# Altium footprint library TSOP.PcbLib: 15 footprints
Each footprint in its own frame and in the unit in brackets; x right, y up, seen from the top. Pads: shape width x height; smd on the part's side, far side on the other; paste and mask are expansions set on the pad; w line width, h text height; cw(c..) or ccw(c..) is an arc to the next point about the centre after c.
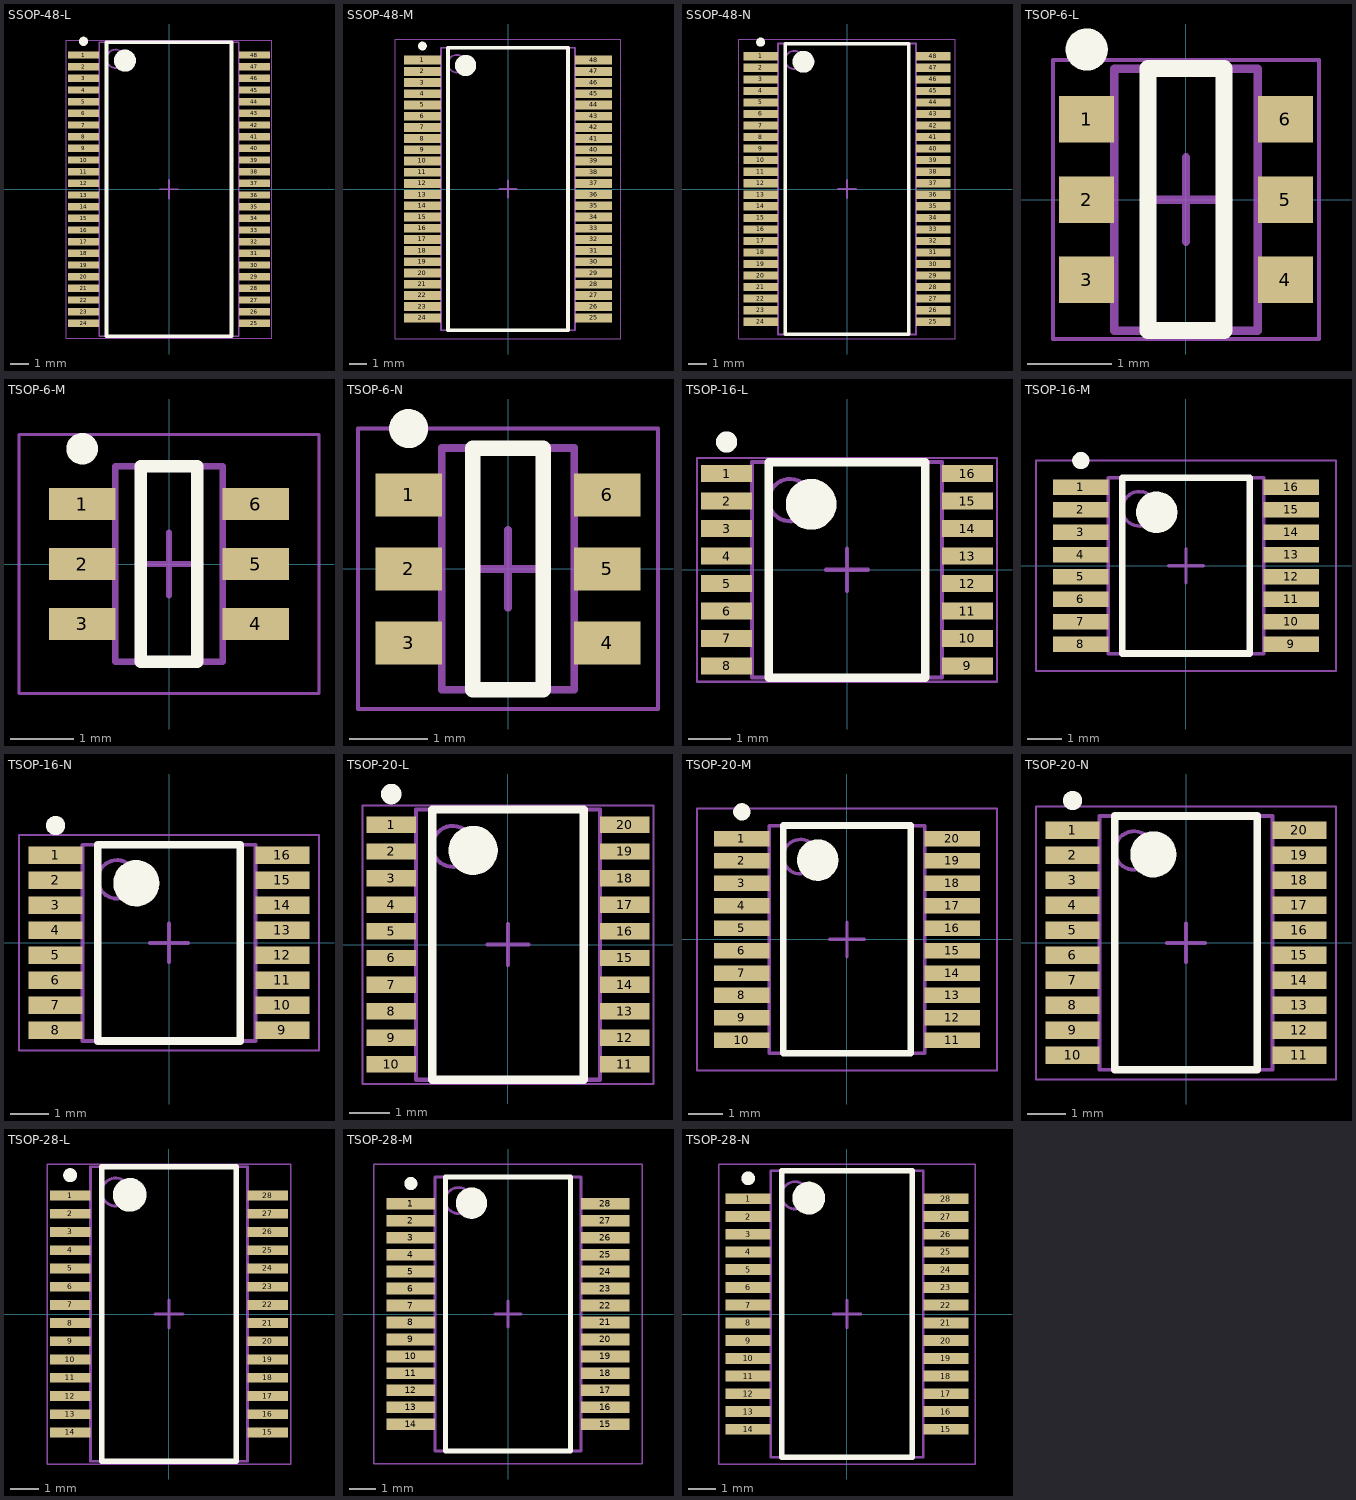
[diagram p0: the footprints below, top view; thin cyan lines are the x and y axes]

## SSOP-48-L [mm] "SOP, 48-Leads, Body 15,88x7,49mm, Pitch 0,64mm, IPC High Density"
height 2.79
pads (48):
  rect 1.7x0.4 smd: 1(-4.65,7.302) 2(-4.65,6.667) 3(-4.65,6.032) 4(-4.65,5.397) 5(-4.65,4.763) 6(-4.65,4.127) 7(-4.65,3.492) 8(-4.65,2.857) 9(-4.65,2.222) 10(-4.65,1.587) 11(-4.65,0.953) 12(-4.65,0.318) 13(-4.65,-0.318) 14(-4.65,-0.953) 15(-4.65,-1.587) 16(-4.65,-2.222) 17(-4.65,-2.857) 18(-4.65,-3.492) 19(-4.65,-4.127) 20(-4.65,-4.763) 21(-4.65,-5.397) 22(-4.65,-6.032) 23(-4.65,-6.667) 24(-4.65,-7.302) 25(4.65,-7.302) 26(4.65,-6.667) 27(4.65,-6.032) 28(4.65,-5.397) 29(4.65,-4.763) 30(4.65,-4.127) 31(4.65,-3.492) 32(4.65,-2.857) 33(4.65,-2.222) 34(4.65,-1.587) 35(4.65,-0.953) 36(4.65,-0.318) 37(4.65,0.318) 38(4.65,0.953) 39(4.65,1.587) 40(4.65,2.222) 41(4.65,2.857) 42(4.65,3.492) 43(4.65,4.127) 44(4.65,4.763) 45(4.65,5.397) 46(4.65,6.032) 47(4.65,6.667) 48(4.65,7.302)
Top Overlay:
  circle w0.25: c-4.65,8.053 r0.125
  circle w0.6: c-2.4,7 r0.3
  lines w0.2: -3.4,-8 -3.4,8 3.4,8 3.4,-8 -3.4,-8
Mechanical 13:
  circle w0.1: c-2.9,7.1 r0.5
  lines w0.1: -3.8,-8 -3.8,8 3.8,8 3.8,-8 -3.8,-8
Mechanical 15:
  lines w0.05: -5.6,-8.1 -5.6,8.1 5.6,8.1 5.6,-8.1 -5.6,-8.1
  lines w0.1: -0.5,0 0.5,0 ; 0,-0.5 0,0.5
3D body "SSOP-48-L.step": height 2.79, standoff 0, extent -5.175,-8 5.175,8

## SSOP-48-M [mm] "SOP, 48-Leads, Body 15,88x7,49mm, Pitch 0,64mm, IPC Low Density"
height 2.79
pads (48):
  rect 2.1x0.5 smd: 1(-4.85,7.302) 2(-4.85,6.667) 3(-4.85,6.032) 4(-4.85,5.397) 5(-4.85,4.763) 6(-4.85,4.127) 7(-4.85,3.492) 8(-4.85,2.857) 9(-4.85,2.222) 10(-4.85,1.587) 11(-4.85,0.953) 12(-4.85,0.318) 13(-4.85,-0.318) 14(-4.85,-0.953) 15(-4.85,-1.587) 16(-4.85,-2.222) 17(-4.85,-2.857) 18(-4.85,-3.492) 19(-4.85,-4.127) 20(-4.85,-4.763) 21(-4.85,-5.397) 22(-4.85,-6.032) 23(-4.85,-6.667) 24(-4.85,-7.302) 25(4.85,-7.302) 26(4.85,-6.667) 27(4.85,-6.032) 28(4.85,-5.397) 29(4.85,-4.763) 30(4.85,-4.127) 31(4.85,-3.492) 32(4.85,-2.857) 33(4.85,-2.222) 34(4.85,-1.587) 35(4.85,-0.953) 36(4.85,-0.318) 37(4.85,0.318) 38(4.85,0.953) 39(4.85,1.587) 40(4.85,2.222) 41(4.85,2.857) 42(4.85,3.492) 43(4.85,4.127) 44(4.85,4.763) 45(4.85,5.397) 46(4.85,6.032) 47(4.85,6.667) 48(4.85,7.302)
Top Overlay:
  circle w0.6: c-2.4,7 r0.3
  circle w0.25: c-4.85,8.103 r0.125
  lines w0.2: -3.4,-8 3.4,-8 3.4,8 -3.4,8 -3.4,-8
Mechanical 13:
  circle w0.1: c-2.9,7.1 r0.5
  lines w0.1: -3.8,-8 3.8,-8 3.8,8 -3.8,8 -3.8,-8
Mechanical 15:
  lines w0.05: -6.4,-8.5 6.4,-8.5 6.4,8.5 -6.4,8.5 -6.4,-8.5
  lines w0.1: -0.5,0 0.5,0 ; 0,-0.5 0,0.5
3D body "SSOP-48-M.step": height 2.79, standoff 0, extent -5.175,-8 5.175,8

## SSOP-48-N [mm] "SOP, 48-Leads, Body 15,88x7,49mm, Pitch 0,64mm, IPC Medium Density"
height 2.79
pads (48):
  rect 1.9x0.45 smd: 1(-4.75,7.302) 2(-4.75,6.667) 3(-4.75,6.032) 4(-4.75,5.397) 5(-4.75,4.763) 6(-4.75,4.127) 7(-4.75,3.492) 8(-4.75,2.857) 9(-4.75,2.222) 10(-4.75,1.587) 11(-4.75,0.953) 12(-4.75,0.318) 13(-4.75,-0.318) 14(-4.75,-0.953) 15(-4.75,-1.587) 16(-4.75,-2.222) 17(-4.75,-2.857) 18(-4.75,-3.492) 19(-4.75,-4.127) 20(-4.75,-4.763) 21(-4.75,-5.397) 22(-4.75,-6.032) 23(-4.75,-6.667) 24(-4.75,-7.302) 25(4.75,-7.302) 26(4.75,-6.667) 27(4.75,-6.032) 28(4.75,-5.397) 29(4.75,-4.763) 30(4.75,-4.127) 31(4.75,-3.492) 32(4.75,-2.857) 33(4.75,-2.222) 34(4.75,-1.587) 35(4.75,-0.953) 36(4.75,-0.318) 37(4.75,0.318) 38(4.75,0.953) 39(4.75,1.587) 40(4.75,2.222) 41(4.75,2.857) 42(4.75,3.492) 43(4.75,4.127) 44(4.75,4.763) 45(4.75,5.397) 46(4.75,6.032) 47(4.75,6.667) 48(4.75,7.302)
Top Overlay:
  circle w0.25: c-4.75,8.077 r0.125
  circle w0.6: c-2.4,7 r0.3
  lines w0.2: -3.4,-8 -3.4,8 3.4,8 3.4,-8 -3.4,-8
Mechanical 13:
  circle w0.1: c-2.9,7.1 r0.5
  lines w0.1: -3.8,-8 -3.8,8 3.8,8 3.8,-8 -3.8,-8
Mechanical 15:
  lines w0.05: -5.95,-8.25 -5.95,8.25 5.95,8.25 5.95,-8.25 -5.95,-8.25
  lines w0.1: -0.5,0 0.5,0 ; 0,-0.5 0,0.5
3D body "SSOP-48-N.step": height 2.79, standoff 0, extent -5.175,-8 5.175,8

## TSOP-6-L [mm] "TSOP, 6-Leads, Body 2.90x1.60mm, Pitch 0.95mm, IPC High Density"
height 1.1
pads (6):
  rect 0.65x0.55 smd: 1(-1.175,0.95) 2(-1.175,0) 3(-1.175,-0.95) 4(1.175,-0.95) 5(1.175,0) 6(1.175,0.95)
Top Overlay:
  circle w0.25: c-1.175,1.775 r0.125
  lines w0.2: -0.45,-1.55 -0.45,1.55 0.45,1.55 0.45,-1.55 -0.45,-1.55
Mechanical 13:
  lines w0.1: -0.85,-1.55 -0.85,1.55 0.85,1.55 0.85,-1.55 -0.85,-1.55
Mechanical 15:
  lines w0.05: -1.575,-1.65 -1.575,1.65 1.575,1.65 1.575,-1.65 -1.575,-1.65
  lines w0.1: -0.5,0 0.5,0 ; 0,-0.5 0,0.5
3D body "TSOP-6-L.step": height 1.1, standoff 0, extent -1.25,-1.55 1.25,1.55

## TSOP-6-M [mm] "TSOP, 6-Leads, Body 2.90x1.60mm, Pitch 0.95mm, IPC Low Density"
height 1.1
pads (6):
  rect 1.05x0.5 smd: 1(-1.375,0.95) 2(-1.375,0) 3(-1.375,-0.95) 4(1.375,-0.95) 5(1.375,0) 6(1.375,0.95)
Top Overlay:
  circle w0.25: c-1.375,1.825 r0.125
  lines w0.2: -0.45,-1.55 -0.45,1.55 0.45,1.55 0.45,-1.55 -0.45,-1.55
Mechanical 13:
  lines w0.1: -0.85,-1.55 -0.85,1.55 0.85,1.55 0.85,-1.55 -0.85,-1.55
Mechanical 15:
  lines w0.05: -2.375,-2.05 -2.375,2.05 2.375,2.05 2.375,-2.05 -2.375,-2.05
  lines w0.1: -0.5,0 0.5,0 ; 0,-0.5 0,0.5
3D body "TSOP95P250X110-6M.step": height 1.1, standoff 0, extent -1.25,-1.55 1.25,1.55

## TSOP-6-N [mm] "TSOP, 6-Leads, Body 2.90x1.60mm, Pitch 0.95mm, IPC Medium Density"
height 1.1
pads (6):
  rect 0.85x0.55 smd: 1(-1.275,0.95) 2(-1.275,0) 3(-1.275,-0.95) 4(1.275,-0.95) 5(1.275,0) 6(1.275,0.95)
Top Overlay:
  circle w0.25: c-1.275,1.8 r0.125
  lines w0.2: -0.45,-1.55 -0.45,1.55 0.45,1.55 0.45,-1.55 -0.45,-1.55
Mechanical 13:
  lines w0.1: -0.85,-1.55 -0.85,1.55 0.85,1.55 0.85,-1.55 -0.85,-1.55
Mechanical 15:
  lines w0.05: -1.925,-1.8 -1.925,1.8 1.925,1.8 1.925,-1.8 -1.925,-1.8
  lines w0.1: -0.5,0 0.5,0 ; 0,-0.5 0,0.5
3D body "TSOP-6-N.step": height 1.1, standoff 0, extent -1.25,-1.55 1.25,1.55

## TSOP-16-L [mm] "TSOP, 16-Leads, Body 5.00x4.40mm, Pitch 0.65mm, IPC High Density"
height 1.2
pads (16):
  rect 1.2x0.4 smd: 1(-2.85,2.275) 2(-2.85,1.625) 3(-2.85,0.975) 4(-2.85,0.325) 5(-2.85,-0.325) 6(-2.85,-0.975) 7(-2.85,-1.625) 8(-2.85,-2.275) 9(2.85,-2.275) 10(2.85,-1.625) 11(2.85,-0.975) 12(2.85,-0.325) 13(2.85,0.325) 14(2.85,0.975) 15(2.85,1.625) 16(2.85,2.275)
Top Overlay:
  circle w0.25: c-2.85,3.025 r0.125
  circle w0.6: c-0.85,1.55 r0.3
  lines w0.2: -1.85,-2.55 -1.85,2.55 1.85,2.55 1.85,-2.55 -1.85,-2.55
Mechanical 13:
  circle w0.1: c-1.35,1.65 r0.5
  lines w0.1: -2.25,-2.55 -2.25,2.55 2.25,2.55 2.25,-2.55 -2.25,-2.55
Mechanical 15:
  lines w0.05: -3.55,-2.65 -3.55,2.65 3.55,2.65 3.55,-2.65 -3.55,-2.65
  lines w0.1: -0.5,0 0.5,0 ; 0,-0.5 0,0.5
3D body "TSOP-16-L.step": height 1.2, standoff 0, extent -3.2,-2.55 3.2,2.55

## TSOP-16-M [mm] "TSOP, 16-Leads, Body 5.00x4.40mm, Pitch 0.65mm, IPC Low Density"
height 1.2
pads (16):
  rect 1.6x0.45 smd: 1(-3.05,2.275) 2(-3.05,1.625) 3(-3.05,0.975) 4(-3.05,0.325) 5(-3.05,-0.325) 6(-3.05,-0.975) 7(-3.05,-1.625) 8(-3.05,-2.275) 9(3.05,-2.275) 10(3.05,-1.625) 11(3.05,-0.975) 12(3.05,-0.325) 13(3.05,0.325) 14(3.05,0.975) 15(3.05,1.625) 16(3.05,2.275)
Top Overlay:
  circle w0.25: c-3.05,3.05 r0.125
  circle w0.6: c-0.85,1.55 r0.3
  lines w0.2: -1.85,-2.55 -1.85,2.55 1.85,2.55 1.85,-2.55 -1.85,-2.55
Mechanical 13:
  circle w0.1: c-1.35,1.65 r0.5
  lines w0.1: -2.25,-2.55 -2.25,2.55 2.25,2.55 2.25,-2.55 -2.25,-2.55
Mechanical 15:
  lines w0.05: -4.35,-3.05 -4.35,3.05 4.35,3.05 4.35,-3.05 -4.35,-3.05
  lines w0.1: -0.5,0 0.5,0 ; 0,-0.5 0,0.5
3D body "TSOP-16-M.step": height 1.2, standoff 0, extent -3.2,-2.55 3.2,2.55

## TSOP-16-N [mm] "TSOP, 16-Leads, Body 5.00x4.40mm, Pitch 0.65mm, IPC Medium Density"
height 1.2
pads (16):
  rect 1.4x0.45 smd: 1(-2.95,2.275) 2(-2.95,1.625) 3(-2.95,0.975) 4(-2.95,0.325) 5(-2.95,-0.325) 6(-2.95,-0.975) 7(-2.95,-1.625) 8(-2.95,-2.275) 9(2.95,-2.275) 10(2.95,-1.625) 11(2.95,-0.975) 12(2.95,-0.325) 13(2.95,0.325) 14(2.95,0.975) 15(2.95,1.625) 16(2.95,2.275)
Top Overlay:
  circle w0.6: c-0.85,1.55 r0.3
  circle w0.25: c-2.95,3.05 r0.125
  lines w0.2: -1.85,-2.55 1.85,-2.55 1.85,2.55 -1.85,2.55 -1.85,-2.55
Mechanical 13:
  circle w0.1: c-1.35,1.65 r0.5
  lines w0.1: -2.25,-2.55 2.25,-2.55 2.25,2.55 -2.25,2.55 -2.25,-2.55
Mechanical 15:
  lines w0.05: -3.9,-2.8 3.9,-2.8 3.9,2.8 -3.9,2.8 -3.9,-2.8
  lines w0.1: -0.5,0 0.5,0 ; 0,-0.5 0,0.5
3D body "TSOP-16-N.step": height 1.2, standoff 0, extent -3.2,-2.55 3.2,2.55

## TSOP-20-L [mm] "TSOP, 20-Leads, Body 6.50x4.40mm, Pitch 0.65mm, IPC High Density"
height 1.2
pads (20):
  rect 1.2x0.4 smd: 1(-2.85,2.925) 2(-2.85,2.275) 3(-2.85,1.625) 4(-2.85,0.975) 5(-2.85,0.325) 6(-2.85,-0.325) 7(-2.85,-0.975) 8(-2.85,-1.625) 9(-2.85,-2.275) 10(-2.85,-2.925) 11(2.85,-2.925) 12(2.85,-2.275) 13(2.85,-1.625) 14(2.85,-0.975) 15(2.85,-0.325) 16(2.85,0.325) 17(2.85,0.975) 18(2.85,1.625) 19(2.85,2.275) 20(2.85,2.925)
Top Overlay:
  circle w0.6: c-0.85,2.3 r0.3
  circle w0.25: c-2.85,3.675 r0.125
  lines w0.2: -1.85,-3.3 1.85,-3.3 1.85,3.3 -1.85,3.3 -1.85,-3.3
Mechanical 13:
  circle w0.1: c-1.35,2.4 r0.5
  lines w0.1: -2.25,-3.3 2.25,-3.3 2.25,3.3 -2.25,3.3 -2.25,-3.3
Mechanical 15:
  lines w0.05: -3.55,-3.4 3.55,-3.4 3.55,3.4 -3.55,3.4 -3.55,-3.4
  lines w0.1: -0.5,0 0.5,0 ; 0,-0.5 0,0.5
3D body "TSOP-20-L.step": height 1.2, standoff 0, extent -3.2,-3.3 3.2,3.3

## TSOP-20-M [mm] "TSOP, 20-Leads, Body 6.50x4.40mm, Pitch 0.65mm, IPC Low Density"
height 1.2
pads (20):
  rect 1.6x0.45 smd: 1(-3.05,2.925) 2(-3.05,2.275) 3(-3.05,1.625) 4(-3.05,0.975) 5(-3.05,0.325) 6(-3.05,-0.325) 7(-3.05,-0.975) 8(-3.05,-1.625) 9(-3.05,-2.275) 10(-3.05,-2.925) 11(3.05,-2.925) 12(3.05,-2.275) 13(3.05,-1.625) 14(3.05,-0.975) 15(3.05,-0.325) 16(3.05,0.325) 17(3.05,0.975) 18(3.05,1.625) 19(3.05,2.275) 20(3.05,2.925)
Top Overlay:
  circle w0.25: c-3.05,3.7 r0.125
  circle w0.6: c-0.85,2.3 r0.3
  lines w0.2: -1.85,-3.3 -1.85,3.3 1.85,3.3 1.85,-3.3 -1.85,-3.3
Mechanical 13:
  circle w0.1: c-1.35,2.4 r0.5
  lines w0.1: -2.25,-3.3 -2.25,3.3 2.25,3.3 2.25,-3.3 -2.25,-3.3
Mechanical 15:
  lines w0.05: -4.35,-3.8 -4.35,3.8 4.35,3.8 4.35,-3.8 -4.35,-3.8
  lines w0.1: -0.5,0 0.5,0 ; 0,-0.5 0,0.5
3D body "TSOP-20-M.step": height 1.2, standoff 0, extent -3.2,-3.3 3.2,3.3

## TSOP-20-N [mm] "TSOP, 20-Leads, Body 6.50x4.40mm, Pitch 0.65mm, IPC Medium Density"
height 1.2
pads (20):
  rect 1.4x0.45 smd: 1(-2.95,2.925) 2(-2.95,2.275) 3(-2.95,1.625) 4(-2.95,0.975) 5(-2.95,0.325) 6(-2.95,-0.325) 7(-2.95,-0.975) 8(-2.95,-1.625) 9(-2.95,-2.275) 10(-2.95,-2.925) 11(2.95,-2.925) 12(2.95,-2.275) 13(2.95,-1.625) 14(2.95,-0.975) 15(2.95,-0.325) 16(2.95,0.325) 17(2.95,0.975) 18(2.95,1.625) 19(2.95,2.275) 20(2.95,2.925)
Top Overlay:
  circle w0.6: c-0.85,2.3 r0.3
  circle w0.25: c-2.95,3.7 r0.125
  lines w0.2: -1.85,-3.3 1.85,-3.3 1.85,3.3 -1.85,3.3 -1.85,-3.3
Mechanical 13:
  circle w0.1: c-1.35,2.4 r0.5
  lines w0.1: -2.25,-3.3 2.25,-3.3 2.25,3.3 -2.25,3.3 -2.25,-3.3
Mechanical 15:
  lines w0.05: -3.9,-3.55 3.9,-3.55 3.9,3.55 -3.9,3.55 -3.9,-3.55
  lines w0.1: -0.5,0 0.5,0 ; 0,-0.5 0,0.5
3D body "TSOP-20-N.step": height 1.2, standoff 0, extent -3.2,-3.3 3.2,3.3

## TSOP-28-L [mm] "SOP, 28-Leads, Body 10.20x5.30mm, Pitch 0.65mm, IPC High Density"
height 1.75
pads (28):
  rect 1.45x0.35 smd: 1(-3.525,4.225) 2(-3.525,3.575) 3(-3.525,2.925) 4(-3.525,2.275) 5(-3.525,1.625) 6(-3.525,0.975) 7(-3.525,0.325) 8(-3.525,-0.325) 9(-3.525,-0.975) 10(-3.525,-1.625) 11(-3.525,-2.275) 12(-3.525,-2.925) 13(-3.525,-3.575) 14(-3.525,-4.225) 15(3.525,-4.225) 16(3.525,-3.575) 17(3.525,-2.925) 18(3.525,-2.275) 19(3.525,-1.625) 20(3.525,-0.975) 21(3.525,-0.325) 22(3.525,0.325) 23(3.525,0.975) 24(3.525,1.625) 25(3.525,2.275) 26(3.525,2.925) 27(3.525,3.575) 28(3.525,4.225)
Top Overlay:
  circle w0.6: c-1.4,4.25 r0.3
  circle w0.25: c-3.525,4.95 r0.125
  lines w0.2: -2.4,-5.25 2.4,-5.25 2.4,5.25 -2.4,5.25 -2.4,-5.25
Mechanical 13:
  circle w0.1: c-1.9,4.35 r0.5
  lines w0.1: -2.8,-5.25 2.8,-5.25 2.8,5.25 -2.8,5.25 -2.8,-5.25
Mechanical 15:
  lines w0.05: -4.35,-5.35 4.35,-5.35 4.35,5.35 -4.35,5.35 -4.35,-5.35
  lines w0.1: -0.5,0 0.5,0 ; 0,-0.5 0,0.5
3D body "SOP65P780X175-28L.step": height 1.75, standoff 0, extent -3.9,-5.25 3.9,5.25

## TSOP-28-M [mm] "SOP, 28-Leads, Body 10.20x5.30mm, Pitch 0.65mm, IPC Low Density"
height 1.75
pads (28):
  rect 1.85x0.45 smd: 1(-3.725,4.225) 2(-3.725,3.575) 3(-3.725,2.925) 4(-3.725,2.275) 5(-3.725,1.625) 6(-3.725,0.975) 7(-3.725,0.325) 8(-3.725,-0.325) 9(-3.725,-0.975) 10(-3.725,-1.625) 11(-3.725,-2.275) 12(-3.725,-2.925) 13(-3.725,-3.575) 14(-3.725,-4.225) 15(3.725,-4.225) 16(3.725,-3.575) 17(3.725,-2.925) 18(3.725,-2.275) 19(3.725,-1.625) 20(3.725,-0.975) 21(3.725,-0.325) 22(3.725,0.325) 23(3.725,0.975) 24(3.725,1.625) 25(3.725,2.275) 26(3.725,2.925) 27(3.725,3.575) 28(3.725,4.225)
Top Overlay:
  circle w0.25: c-3.725,5 r0.125
  circle w0.6: c-1.4,4.25 r0.3
  lines w0.2: -2.4,-5.25 -2.4,5.25 2.4,5.25 2.4,-5.25 -2.4,-5.25
Mechanical 13:
  circle w0.1: c-1.9,4.35 r0.5
  lines w0.1: -2.8,-5.25 -2.8,5.25 2.8,5.25 2.8,-5.25 -2.8,-5.25
Mechanical 15:
  lines w0.05: -5.15,-5.75 -5.15,5.75 5.15,5.75 5.15,-5.75 -5.15,-5.75
  lines w0.1: -0.5,0 0.5,0 ; 0,-0.5 0,0.5
3D body "SOP65P780X175-28M.step": height 1.75, standoff 0, extent -3.9,-5.25 3.9,5.25

## TSOP-28-N [mm] "SOP, 28-Leads, Body 10.20x5.30mm, Pitch 0.65mm, IPC Medium Density"
height 1.75
pads (28):
  rect 1.65x0.4 smd: 1(-3.625,4.225) 2(-3.625,3.575) 3(-3.625,2.925) 4(-3.625,2.275) 5(-3.625,1.625) 6(-3.625,0.975) 7(-3.625,0.325) 8(-3.625,-0.325) 9(-3.625,-0.975) 10(-3.625,-1.625) 11(-3.625,-2.275) 12(-3.625,-2.925) 13(-3.625,-3.575) 14(-3.625,-4.225) 15(3.625,-4.225) 16(3.625,-3.575) 17(3.625,-2.925) 18(3.625,-2.275) 19(3.625,-1.625) 20(3.625,-0.975) 21(3.625,-0.325) 22(3.625,0.325) 23(3.625,0.975) 24(3.625,1.625) 25(3.625,2.275) 26(3.625,2.925) 27(3.625,3.575) 28(3.625,4.225)
Top Overlay:
  circle w0.25: c-3.625,4.975 r0.125
  circle w0.6: c-1.4,4.25 r0.3
  lines w0.2: -2.4,-5.25 -2.4,5.25 2.4,5.25 2.4,-5.25 -2.4,-5.25
Mechanical 13:
  circle w0.1: c-1.9,4.35 r0.5
  lines w0.1: -2.8,-5.25 -2.8,5.25 2.8,5.25 2.8,-5.25 -2.8,-5.25
Mechanical 15:
  lines w0.05: -4.7,-5.5 -4.7,5.5 4.7,5.5 4.7,-5.5 -4.7,-5.5
  lines w0.1: -0.5,0 0.5,0 ; 0,-0.5 0,0.5
3D body "SOP65P780X175-28N.step": height 1.75, standoff 0, extent -3.9,-5.25 3.9,5.25